# EAGLE library part SN65C3221PW (library components)
RS-232 Line Driver/Receiver
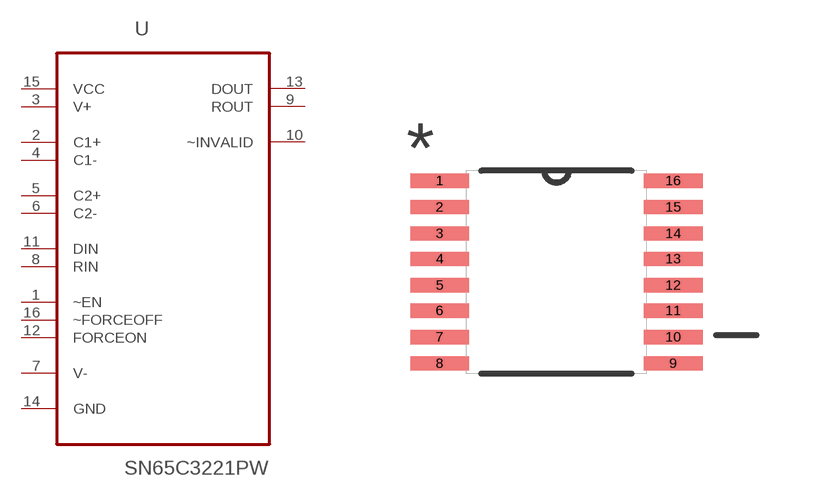
[diagram p13: symbol with the pads of SOP65P640X120-16N; footprint SOP65P640X120-16N]

Designator prefix U

## SN65C3221PW (MPN: SN65C3221PW; OC_FARNELL: 9590005; OC_NEWARK: 02H5325; PACKAGE: TSSOP-16; SUPPLIER: Texas Instruments)  [SOP65P640X120-16N]
1  ~EN  in
2  C1+  pas
3  V+  pwr
4  C1-  pas
5  C2+  pas
6  C2-  pas
7  V-  pwr
8  RIN  in
9  ROUT  out
10  ~INVALID  out
11  DIN  in
12  FORCEON  in
13  DOUT  out
14  GND  pas
15  VCC  pwr
16  ~FORCEOFF  in

## Footprint SOP65P640X120-16N (pad centres in mm)
smd 1.473 x 0.356: 1 -2.921,2.286; 2 -2.921,1.626; 3 -2.921,0.965; 4 -2.921,0.33; 5 -2.921,-0.33; 6 -2.921,-0.965; 7 -2.921,-1.626; 8 -2.921,-2.286; 9 2.921,-2.286; 10 2.921,-1.626; 11 2.921,-0.965; 12 2.921,-0.33; 13 2.921,0.33; 14 2.921,0.965; 15 2.921,1.626; 16 2.921,2.286